# EAGLE library part TDA1551Q (library Audio-Power-amlifier V.2.0)
The TDA1551Q is an integrated class-B output amplifier encased in a 17-lead single-in-line plastic power package. The device contains 4 ´ 11 W single-ended (SE) or 2 ´ 22 W BTL amplifiers and is intended for use in car radio applications.
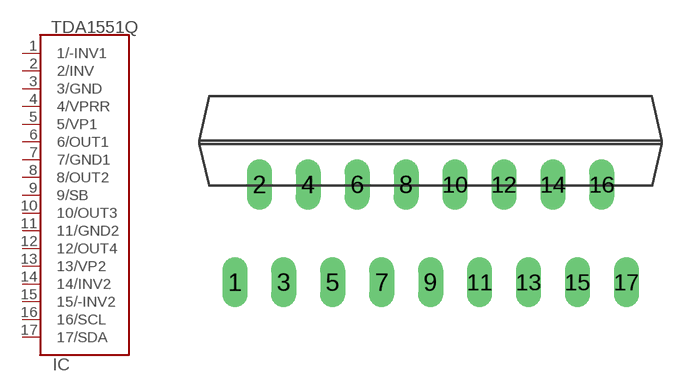
[diagram p233: symbol with the pads of SOT243-1; footprint SOT243-1]

Designator prefix IC

## TDA1551Q  [SOT243-1]
1  1/-INV1  in
2  2/INV  in
3  3/GND  pwr
4  4/VPRR  pwr
5  5/VP1  pwr
6  6/OUT1  out
7  7/GND1  pwr
8  8/OUT2  out
9  9/SB  in
10  10/OUT3  out
11  11/GND2  pwr
12  12/OUT4  out
13  13/VP2  pwr
14  14/INV2  in
15  15/-INV2  in
16  16/SCL
17  17/SDA

## Footprint SOT243-1 (pad centres in mm)
DBS17P: plastic DIL-bent-SIL power package; 17 leads (lead length 7.7 mm)
drill 0.8 long: 1 -10.16,-5.08; 2 -8.89,0; 3 -7.62,-5.08; 4 -6.35,0; 5 -5.08,-5.08; 6 -3.81,0; 7 -2.54,-5.08; 8 -1.27,0; 9 0,-5.08; 10 1.27,0; 11 2.54,-5.08; 12 3.81,0; 13 5.08,-5.08; 14 6.35,0; 15 7.62,-5.08; 16 8.89,0; 17 10.17,-5.08